# EAGLE library part MCP4728 (library SKAARHOJ)
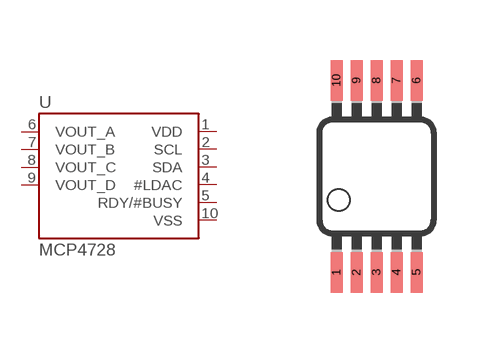
[diagram p72: symbol with the pads of MSOP10; footprint MSOP10]

Designator prefix -

## MCP4728  [MSOP10]
1  VDD  pwr
2  SCL
3  SDA
4  #LDAC  in
5  RDY/#BUSY  out
6  VOUT_A  out
7  VOUT_B  out
8  VOUT_C  out
9  VOUT_D  out
10  VSS  pwr

## Footprint MSOP10 (pad centres in mm)
10 Lead MSOP Package NS Package Number MUB10A Source: http://cache.national.com/ds/LM/LM5030.pdf
smd 0.3 x 1.02: 1 -1,-2.4; 2 -0.5,-2.4; 3 0,-2.4; 4 0.5,-2.4; 5 1,-2.4; 6 1,2.4; 7 0.5,2.4; 8 0,2.4; 9 -0.5,2.4; 10 -1,2.4